# EAGLE library part IDC-30 (library greg-Connector)
https://www.digikey.com/product-detail/en/3m/N2530-6V0C-RB-WF/MSH30KTR-ND/1125440 https://www.digikey.com/product-detail/en/3m/M3AAA-3006R/M3AAA-3006R-ND/230673
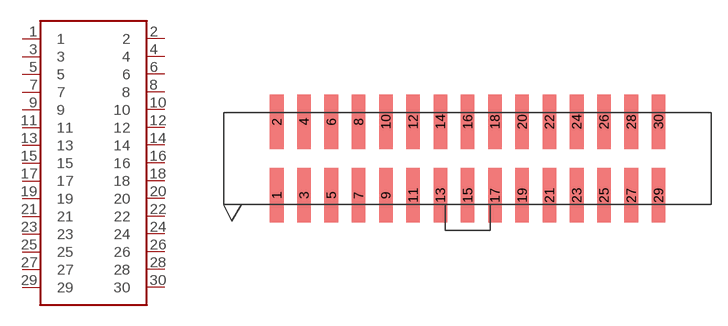
[diagram p12: symbol with the pads of IDC-SHROUDED-2X15; footprint IDC-SHROUDED-2X15]

Designator prefix J

## IDC-30SMD  [IDC-SHROUDED-2X15]
1  1
2  2
3  3
4  4
5  5
6  6
7  7
8  8
9  9
10  10
11  11
12  12
13  13
14  14
15  15
16  16
17  17
18  18
19  19
20  20
21  21
22  22
23  23
24  24
25  25
26  26
27  27
28  28
29  29
30  30

## Footprint IDC-SHROUDED-2X15 (pad centres in mm)
smd 1.27 x 5.08: 1 -17.78,-3.429; 2 -17.78,3.429; 3 -15.24,-3.429; 4 -15.24,3.429; 5 -12.7,-3.429; 6 -12.7,3.429; 7 -10.16,-3.429; 8 -10.16,3.429; 9 -7.62,-3.429; 10 -7.62,3.429; 11 -5.08,-3.429; 12 -5.08,3.429; 13 -2.54,-3.429; 14 -2.54,3.429; 15 0,-3.429; 16 0,3.429; 17 2.54,-3.429; 18 2.54,3.429; 19 5.08,-3.429; 20 5.08,3.429; 21 7.62,-3.429; 22 7.62,3.429; 23 10.16,-3.429; 24 10.16,3.429; 25 12.7,-3.429; 26 12.7,3.429; 27 15.24,-3.429; 28 15.24,3.429; 29 17.78,-3.429; 30 17.78,3.429